# Altium schematic symbol library CustomComponentsLibrary.SchLib: 8 symbols
Pins are listed as number, name and electrical type; pins without a type are passive.

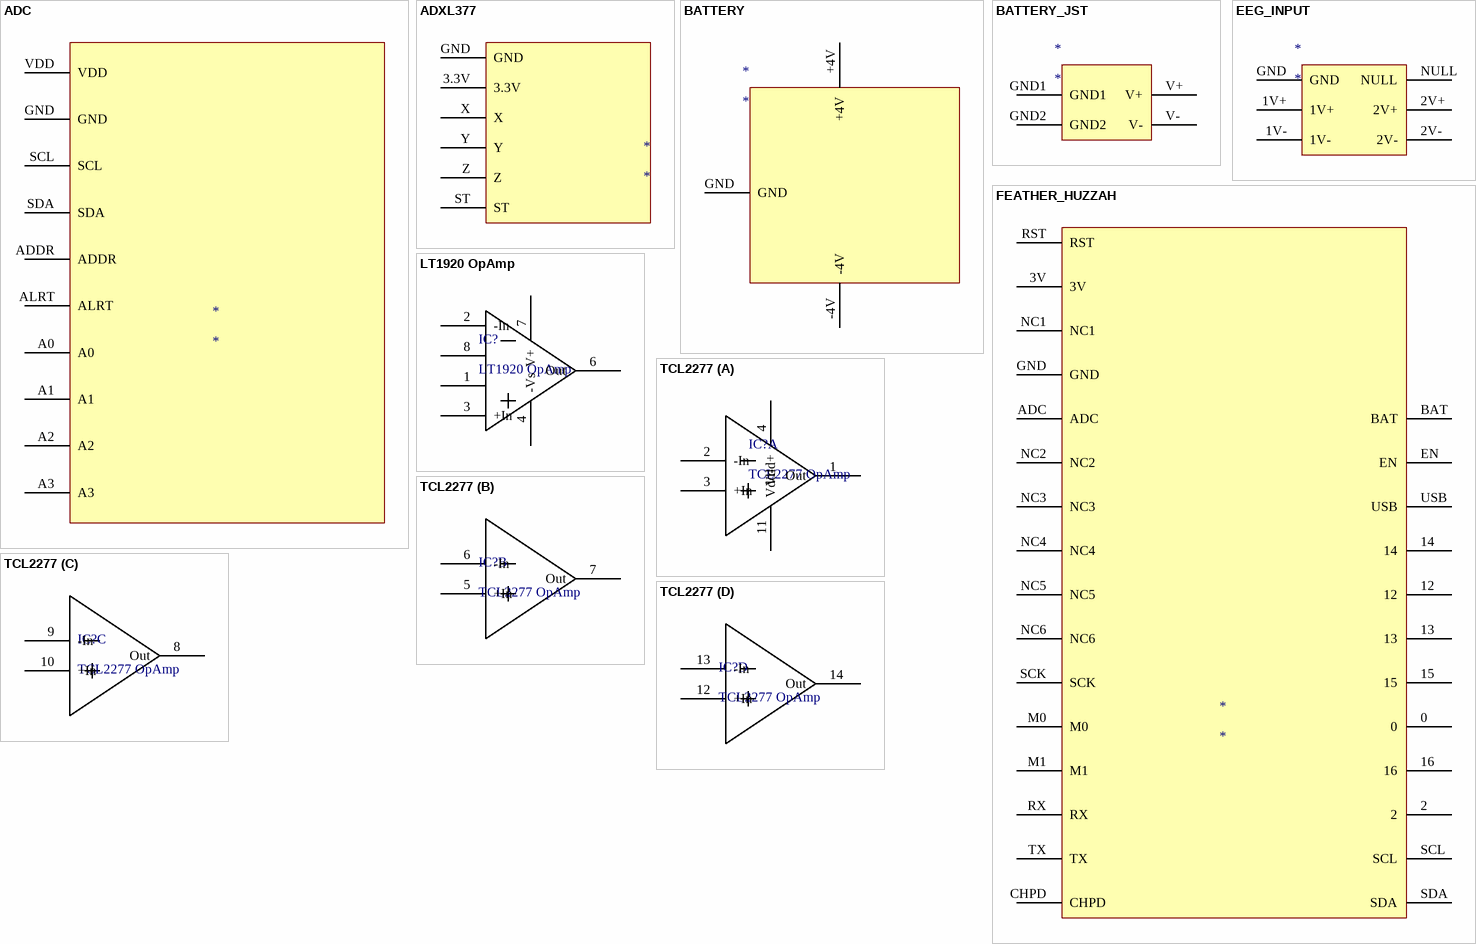
[diagram p0: symbols ADC to TCL2277]

## ADC
designator *
footprint ADC
pins: A0, A1, A2, A3, ADDR, ALRT, GND, SCL, SDA, VDD

## ADXL377
designator *
footprint ADXL377_Acc
pins: 3.3V, GND, ST, X, Y, Z

## BATTERY
designator *
footprint BATTERY
pins: +4V, -4V, GND

## BATTERY_JST
designator *
footprint BATTERY_JST
pins: GND1, GND2, V+, V-

## EEG_INPUT
designator *
pins: 1V+, 1V-, 2V+, 2V-, GND, NULL

## FEATHER_HUZZAH
designator *
footprint Feather_Huzzah (ESP8266 Feather Breakout Board)
pins: 0, 2, 3V, 12, 13, 14, 15, 16, ADC, BAT, CHPD, EN, GND, M0, M1, NC1, NC2, NC3, NC4, NC5, NC6, RST, RX, SCK, SCL, SDA, TX, USB

## LT1920 OpAmp
designator IC?
footprint LT1920 (LT1920 OpAmp)
pins: 1 Rg, 2 -In, 3 +In, 4 -Vs, 6 Out, 7 V+, 8 Rg

## TCL2277
designator IC?, comment TCL2277 OpAmp
footprint TLC2277 (TLC2277 OpAmp)
part A pins: 1 Out, 2 -In, 3 +In, 4 Vdd+, 11 Vdd-
part B pins: 5 +In, 6 -In, 7 Out
part C pins: 8 Out, 9 -In, 10 +In
part D pins: 12 +In, 13 -In, 14 Out
1 alternate drawing of the same symbol